# EAGLE library part SCD30_ADA (library SCD30)
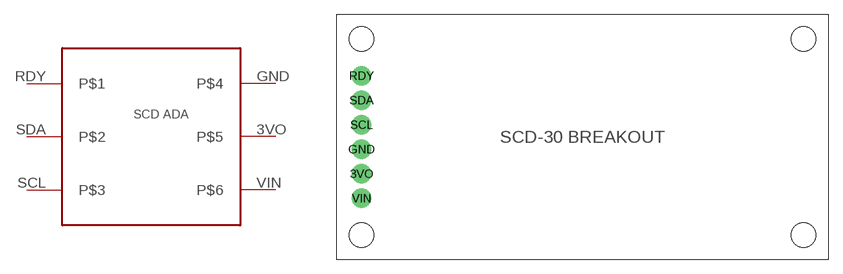
[diagram p1: symbol with the pads of SCD30_ADA; footprint SCD30_ADA]

Designator prefix -

## SCD30_ADA  [SCD30_ADA]
3VO  P$5
GND  P$4
RDY  P$1
SCL  P$3
SDA  P$2
VIN  P$6

## Footprint SCD30_ADA (pad centres in mm)
drill 1 pad 2: 3VO 2.54,8.89; GND 2.54,11.43; RDY 2.54,19.05; SCL 2.54,13.97; SDA 2.54,16.51; VIN 2.54,6.35
hole 2.54 at 2.54,2.54
hole 2.54 at 48.26,2.54
hole 2.54 at 48.26,22.86
hole 2.54 at 2.54,22.86